# EAGLE library part ADC124S__1(NATSEMI-QUAD-ADC) (library QuantumOptics)
ADC124S??1, NatSemi, quad serial 12-bit ADC. 3 speeds available. http://cache.national.com/ds/DC/ADC124S101.pdf
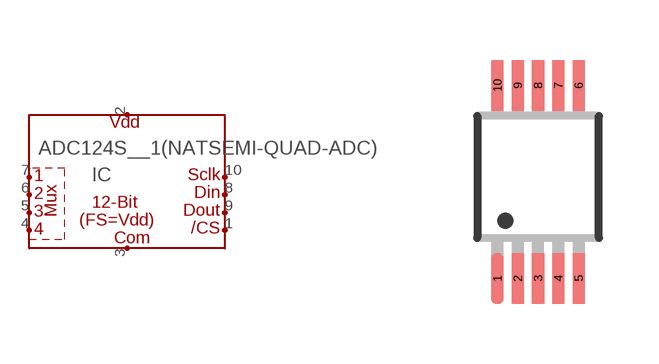
[diagram p72: symbol with the pads of MSOP-10; footprint MSOP-10]

Designator prefix IC

## ADC124S__1(NATSEMI-QUAD-ADC)  [MSOP-10]
1  ~CS  in
2  VA
3  COM
4  IN4  in
5  IN3  in
6  IN2  in
7  IN1  in
8  DIN  in
9  DOUT  out
10  SCLK  in

## Footprint MSOP-10 (pad centres in mm)
MSOP-10 Use 0.5mm or 0.020" grid. http://cache.national.com/ds/DC/ADC124S101.pdf
smd 0.305 x 1.27: 1 -1.016,-2.286; 2 -0.508,-2.286; 3 0,-2.286; 4 0.508,-2.286; 5 1.016,-2.286; 6 1.016,2.54; 7 0.508,2.54; 8 0,2.54; 9 -0.508,2.54; 10 -1.016,2.54